# Altium footprint library CellS.PcbLib: 3 footprints
Each footprint in its own frame and in the unit in brackets; x right, y up, seen from the top. Pads: shape width x height; smd on the part's side, far side on the other; paste and mask are expansions set on the pad; w line width, h text height; cw(c..) or ccw(c..) is an arc to the next point about the centre after c.
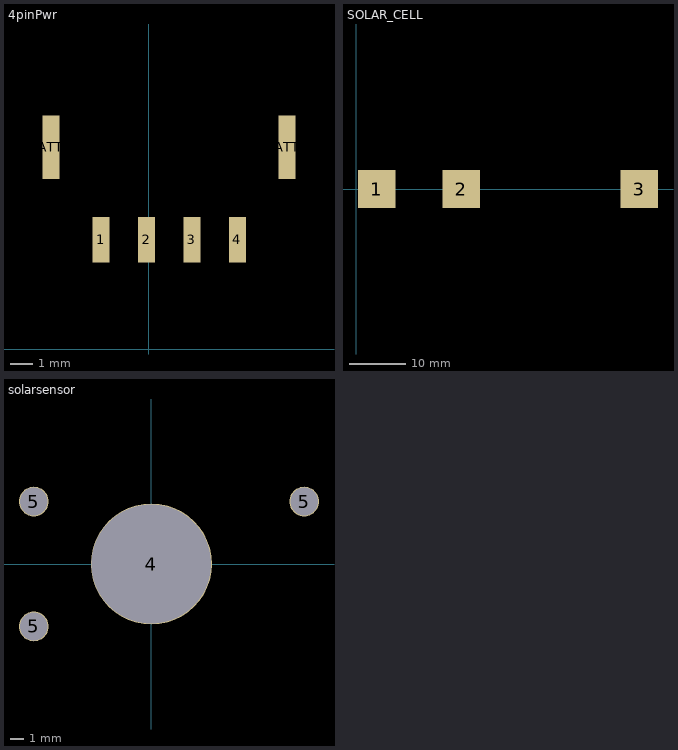
[diagram p0: the footprints below, top view; thin cyan lines are the x and y axes]

## 4pinPwr [mm]
pads (6):
  rect 0.75x2 smd: 1(-2.1,4.826) 2(-0.1,4.826) 3(1.9,4.826) 4(3.9,4.826)
  rect 0.75x2.8 smd: ATT(-4.318,8.89) ATT(6.096,8.89)
3D body "5055780471.stp": height 5.9, standoff 0, extent -5.111,3.937 6.889,13.387

## SOLAR_CELL [mm]
pads (3):
  rect 6.7x6.7 smd: 1(3.642,0) 2(18.687,0) 3(50.317,0)
3D body "finalAzurSpaceCellv2.stp": height 0.1, standoff 0, extent -0.063,-42.98 69.067,3.28

## solarsensor [mm]
pads (4):
  round 8.7 hole 8.6: 4(0,0)
  round 2.14 hole 2: 5(-8.47,-4.5) 5(-8.47,4.5) 5(11,4.5)
3D body "sunsensor_raw.stp": height -1.4, standoff -7.4, extent -17.6,-5.5 15.4,5.5